# EAGLE library part FX2-20 (library Con-Hirose)
Hirose FX2 Series
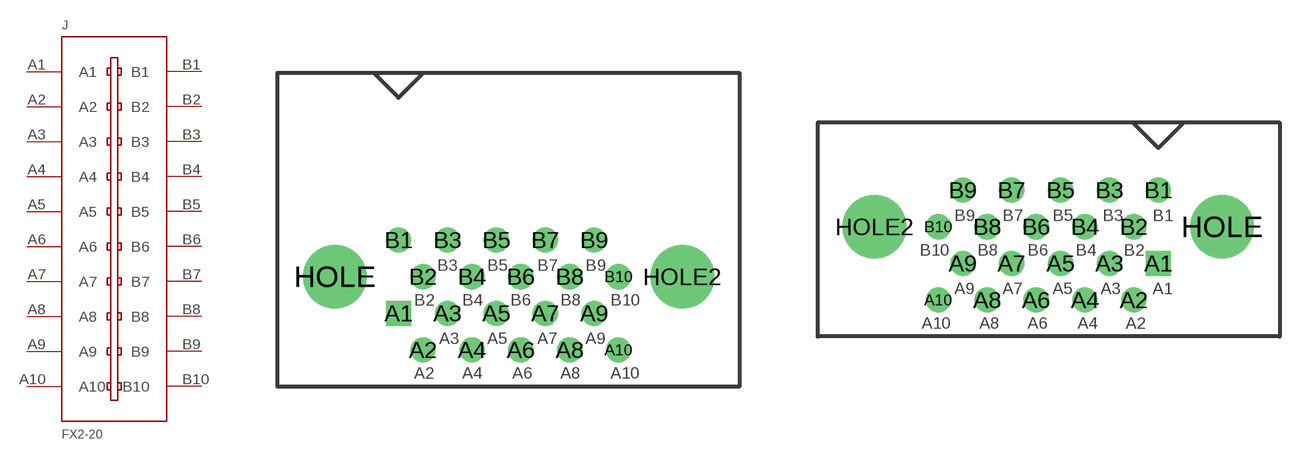
[diagram p0: symbol with the pads of FX2-20P-1.27DS(L); footprints FX2-20P-1.27DS(L), FX2-20S-1.27DS(L)]

Designator prefix J

## FX2-20P-1.27DS(L)  [FX2-20P-1.27DS(L)]
A1  A1
A2  A2
A3  A3
A4  A4
A5  A5
A6  A6
A7  A7
A8  A8
A9  A9
A10  A10
B1  B1
B2  B2
B3  B3
B4  B4
B5  B5
B6  B6
B7  B7
B8  B8
B9  B9
B10  B10

## FX2-20S-1.27DS(L)  [FX2-20S-1.27DS(L)]
Pads as for FX2-20P-1.27DS(L)

## Footprint FX2-20P-1.27DS(L) (pad centres in mm)
drill 0.8 square: A1 0,0
drill 0.8: A2 1.27,-1.905; A3 2.54,0; A4 3.81,-1.905; A5 5.08,0; A6 6.35,-1.905; A7 7.62,0; A8 8.89,-1.905; A9 10.16,0; A10 11.43,-1.905; B1 0,3.81; B2 1.27,1.905; B3 2.54,3.81; B4 3.81,1.905; B5 5.08,3.81; B6 6.35,1.905; B7 7.62,3.81; B8 8.89,1.905; B9 10.16,3.81; B10 11.43,1.905
drill 2.3: HOLE -3.31,1.905; HOLE2 14.74,1.905

## Footprint FX2-20S-1.27DS(L) (pad centres in mm)
drill 0.8 square: A1 0,0
drill 0.8: A2 -1.27,-1.905; A3 -2.54,0; A4 -3.81,-1.905; A5 -5.08,0; A6 -6.35,-1.905; A7 -7.62,0; A8 -8.89,-1.905; A9 -10.16,0; A10 -11.43,-1.905; B1 0,3.81; B2 -1.27,1.905; B3 -2.54,3.81; B4 -3.81,1.905; B5 -5.08,3.81; B6 -6.35,1.905; B7 -7.62,3.81; B8 -8.89,1.905; B9 -10.16,3.81; B10 -11.43,1.905
drill 2.3: HOLE 3.31,1.905; HOLE2 -14.74,1.905